# Altium footprint library FFC.PcbLib: 1 footprints
Each footprint in its own frame and in the unit in brackets; x right, y up, seen from the top. Pads: shape width x height; smd on the part's side, far side on the other; paste and mask are expansions set on the pad; w line width, h text height; cw(c..) or ccw(c..) is an arc to the next point about the centre after c.
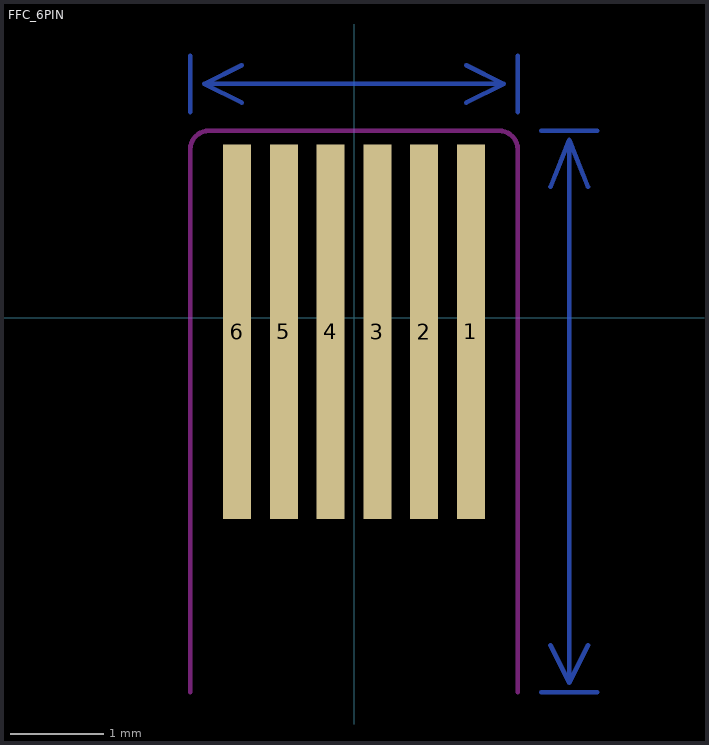
[diagram p0: the footprint, top view; thin cyan lines are the x and y axes]

## FFC_6PIN [mm]
pads (6):
  rect 0.3x4 smd paste-10: 1(1.25,-0.15) 2(0.75,-0.15) 3(0.25,-0.15) 4(-0.25,-0.15) 5(-0.75,-0.15) 6(-1.25,-0.15)
Bottom Layer:
  lines w0.05: -1.75,2.2 -1.75,2.8 ; -1.2,2.3 -1.6,2.5 ; -1.2,2.7 -1.6,2.5 ; 1.2,2.3 1.6,2.5 ; 1.2,2.7 1.6,2.5 ; 1.75,2.2 1.75,2.8 ; 2,-4 2.6,-4 ; 2,2 2.6,2 ; 2.1,-3.5 2.3,-3.9 ; 2.1,1.4 2.3,1.9 ; 2.5,-3.5 2.3,-3.9 ; 2.5,1.4 2.3,1.9 ; -1.6,2.5 1.6,2.5 ; 2.3,-3.9 2.3,1.9
  text "3.5mm" at 0.5,2.7 h0.5
  text "6mm" at 2.7,-1.3 h0.5
  text "stiffener board" at 3.3,1 h0.5
Keep-Out Layer:
  lines w0.05: -1.75,-4 -1.75,1.8 cw(c-1.55,1.8) -1.55,2 1.55,2 cw(c1.55,1.8) 1.75,1.8 1.75,-4